# EAGLE library part 1422037-2 (library Relays)
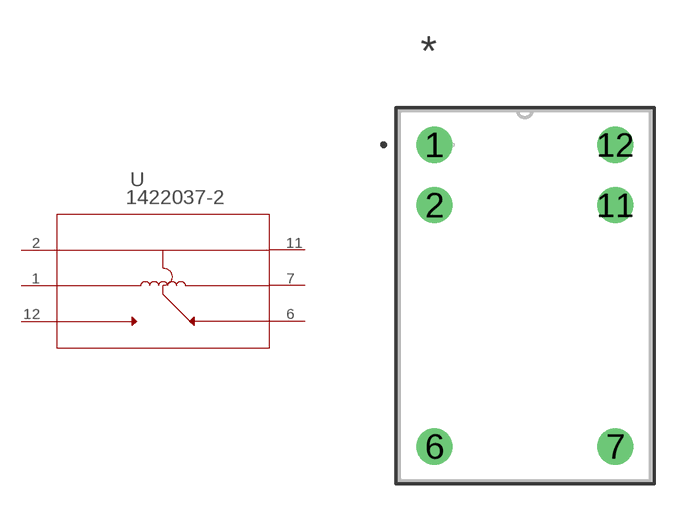
[diagram p27: symbol with the pads of RELAY12-6_417X614_461; footprint RELAY12-6_417X614_461]

Designator prefix U

## 1422037-2 (BUILT_BY: EMA_UL_Team; CATEGORY: Signal Relays; COPYRIGHT: Copyright (C) 2016 Accelerated Designs. All rights reserved; DESCRIPTION: V23101D 106A301; MANUFACTURER_PART_NUMBER: 1422037-2; PART_STATUS: active; SERIES: Axicom W11 Relay V23101; VENDOR: TE Connectivity)  [RELAY12-6_417X614_461]
1  2  pas
2  1  pas
6  4  pas
7  5  pas
11  6  pas
12  3  pas

## Footprint RELAY12-6_417X614_461 (pad centres in mm)
drill 0.965 pad 1.524: 1 -7.62,12.7; 2 -7.62,10.16; 6 -7.62,0; 7 0,0; 11 0,10.16; 12 0,12.7